# Altium schematic symbol library 74LVX4245.SchLib: 1 symbol
Pins are listed as number, name and electrical type; pins without a type are passive.

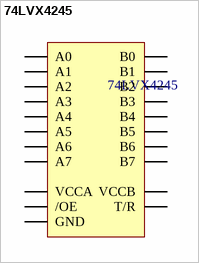
[diagram p0: symbol 74LVX4245]

## 74LVX4245
designator 74LVX4245  (value not drawn)
8-Bit Dual Supply Translating Transceiver with 3-STATE Outputs
footprint 74LVX4245 (8-Bit Dual Supply Translating Transceiver with 3-STATE Outputs)
pins: /OE, A0, A1, A2, A3, A4, A5, A6, A7, B0, B1, B2, B3, B4, B5, B6, B7, GND, T/R, VCCA, VCCB